# Altium footprint library SO-8-PAD.PcbLib: 1 footprints
Each footprint in its own frame and in the unit in brackets; x right, y up, seen from the top. Pads: shape width x height; smd on the part's side, far side on the other; paste and mask are expansions set on the pad; w line width, h text height; cw(c..) or ccw(c..) is an arc to the next point about the centre after c.
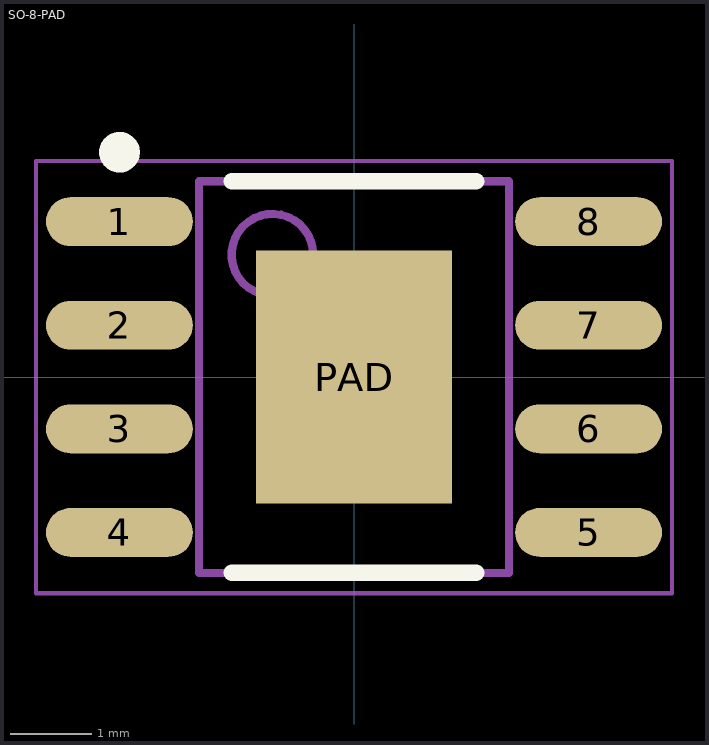
[diagram p0: the footprint, top view; thin cyan lines are the x and y axes]

## SO-8-PAD [mm] "SOIC, 8-Leads, Body 4,90x3,90mm, Pitch 1,27mm, Thermal Pad 3,10x2,40mm, IPC Medium Density"
height 1.7
pads (9):
  oval 1.8x0.6 smd: 1(-2.875,1.905) 2(-2.875,0.635) 3(-2.875,-0.635) 4(-2.875,-1.905) 5(2.875,-1.905) 6(2.875,-0.635) 7(2.875,0.635) 8(2.875,1.905)
  rect 2.4x3.1 smd: PAD(0,0)
Top Overlay:
  circle w0.25: c-2.875,2.755 r0.125
  lines w0.2: -1.5,-2.4 1.5,-2.4 ; -1.5,2.4 1.5,2.4
Mechanical 13:
  circle w0.1: c-1,1.5 r0.5
  lines w0.1: -1.9,-2.4 -1.9,2.4 1.9,2.4 1.9,-2.4 -1.9,-2.4
Mechanical 15:
  lines w0.05: -3.9,-2.65 -3.9,2.65 3.9,2.65 3.9,-2.65 -3.9,-2.65
  lines w0.1: -0.5,0 0.5,0 ; 0,-0.5 0,0.5
3D body "SO-8-PAD.step": height 1.7, standoff 0, extent -3,-2.4 3,2.4